# Altium schematic symbol library Isolators.SchLib: 5 symbols
Pins are listed as number, name and electrical type; pins without a type are passive.

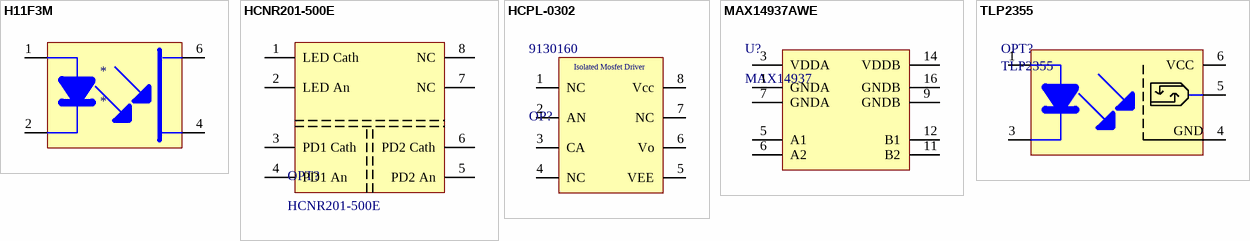
[diagram p0: symbols H11F3M to TLP2355]

## H11F3M
designator *
footprint H11F3M
pins: 1 a, 2 k, 4, 6 3

## HCNR201-500E
designator OPT?
Supplier 1: Farnell; Supplier Part Number 1: 2393247
footprint HCNR201-500E
pins: 1 LED Cath, 2 LED An, 3 PD1 Cath, 4 PD1 An, 5 PD2 An, 6 PD2 Cath, 7 NC, 8 NC

## HCPL-0302
designator OP?, comment Supplier Part Number 2: 9130160  (hidden comment: HCPL-0302-000E)
1 channel opto isolated gate driver; Supplier 1: RSComponents; Supplier Part Number 1: 5474210; Supplier 2: Farnell
footprint hcpl0302_SOIC127P600-8N
pins: 1 NC, 2 AN, 3 CA, 4 NC, 5 VEE, 6 Vo, 7 NC, 8 Vcc
text: Isolated Mosfet Driver

## MAX14937AWE
designator U?, comment MAX14937
Digital Isolators 2 channel
footprint MAX14937 (Digital Isolators 2 channel)
pins: 1 GNDA, 3 VDDA, 5 A1, 6 A2, 7 GNDA, 9 GNDB, 11 B2, 12 B1, 14 VDDB, 16 GNDB

## TLP2355
designator OPT?
Optocoupler, Digital Output, 1 Channel, 3.75 kV; Supplier 1: Mouser; Supplier Part Number 1: 757-TLP2355TPRE
footprint TLP2355 (Optocoupler, Digital Output, 1 Channel, 3.75 kV, 5 Mbps)
pins: 1 a, 3 k, 4, 5, 6 VCC
text: GND